# Altium integrated library V23105A5403A201.IntLib: 1 symbol
Pins are listed as number, name and electrical type; pins without a type are passive.

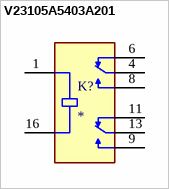
[diagram p0: symbol V23105A5403A201]

## V23105A5403A201
designator K?
MP: V23105A5403A201; Package: None; Price: None; Value: *; Availability: Unavailable
footprint RELAY_1393793-8
pins: 1 COIL1, 4 COM1, 6 NC1, 8 NO1, 9 NO2, 11 NC2, 13 COM2, 16 COIL2